# EAGLE library part 82257 (library micro-siemens)
MICROPROCESSOR/PERIPHERAL DEVICE
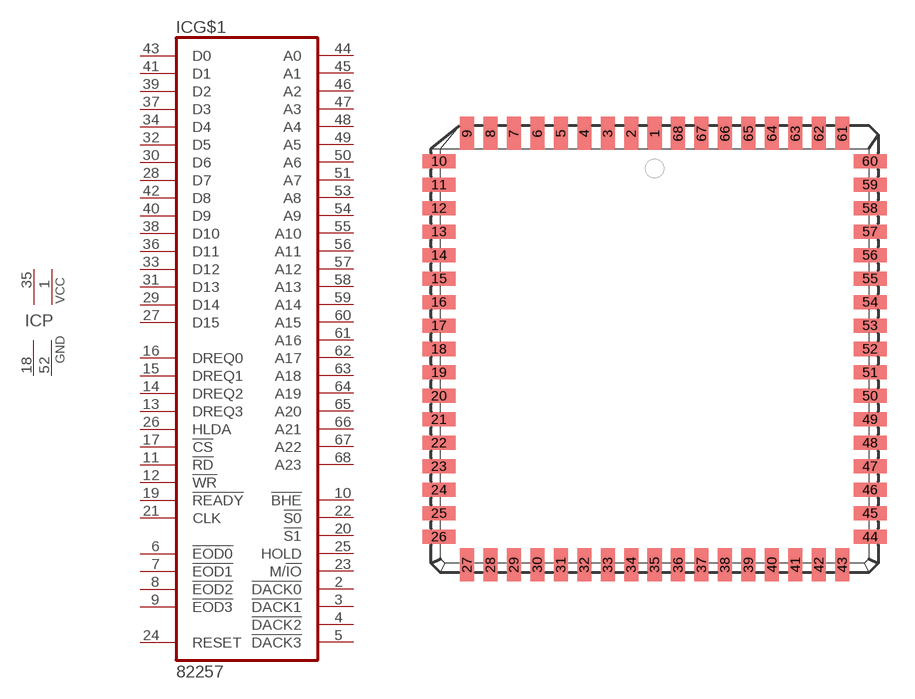
[diagram p5: symbol with the pads of PLCC68; footprint PLCC68]

Designator prefix IC; gates G$1=82257 P=2VCC2GND

## 82257 (OC_FARNELL: unknown; OC_NEWARK: unknown)  [PLCC68]
1  P:VCC  pwr
2  G$1:!DACK0  out
3  G$1:!DACK1  out
4  G$1:!DACK2  out
5  G$1:!DACK3  out
6  G$1:!EOD0
7  G$1:!EOD1
8  G$1:!EOD2
9  G$1:!EOD3
10  G$1:!BHE
11  G$1:!RD  in
12  G$1:!WR  in
13  G$1:DREQ3  in
14  G$1:DREQ2  in
15  G$1:DREQ1  in
16  G$1:DREQ0  in
17  G$1:!CS  in
18  P:GND  pwr
19  G$1:!READY  in
20  G$1:!S1
21  G$1:CLK  in
22  G$1:!S0
23  G$1:M/!IO  out
24  G$1:RESET  in
25  G$1:HOLD  out
26  G$1:HLDA  in
27  G$1:D15
28  G$1:D7
29  G$1:D14
30  G$1:D6
31  G$1:D13
32  G$1:D5
33  G$1:D12
34  G$1:D4
35  P:VCC  pwr
36  G$1:D11
37  G$1:D3
38  G$1:D10
39  G$1:D2
40  G$1:D9
41  G$1:D1
42  G$1:D8
43  G$1:D0
44  G$1:A0
45  G$1:A1
46  G$1:A2
47  G$1:A3
48  G$1:A4
49  G$1:A5
50  G$1:A6
51  G$1:A7
52  P:GND  pwr
53  G$1:A8  out
54  G$1:A9  out
55  G$1:A10  out
56  G$1:A11  out
57  G$1:A12  out
58  G$1:A13  out
59  G$1:A14  out
60  G$1:A15  out
61  G$1:A16  out
62  G$1:A17  out
63  G$1:A18  out
64  G$1:A19  out
65  G$1:A20  out
66  G$1:A21  out
67  G$1:A22  out
68  G$1:A23  out

## Footprint PLCC68 (pad centres in mm)
PLASTIC LEADED CHIP CARRIER square
smd 0.76 x 1.8: 1 0,11.67; 2 -1.27,11.67; 3 -2.54,11.67; 4 -3.81,11.67; 5 -5.08,11.67; 6 -6.35,11.67; 7 -7.62,11.67; 8 -8.89,11.67; 9 -10.16,11.67; 27 -10.16,-11.67; 28 -8.89,-11.67; 29 -7.62,-11.67; 30 -6.35,-11.67; 31 -5.08,-11.67; 32 -3.81,-11.67; 33 -2.54,-11.67; 34 -1.27,-11.67; 35 0,-11.67; 36 1.27,-11.67; 37 2.54,-11.67; 38 3.81,-11.67; 39 5.08,-11.67; 40 6.35,-11.67; 41 7.62,-11.67; 42 8.89,-11.67; 43 10.16,-11.67; 61 10.16,11.67; 62 8.89,11.67; 63 7.62,11.67; 64 6.35,11.67; 65 5.08,11.67; 66 3.81,11.67; 67 2.54,11.67; 68 1.27,11.67
smd 1.8 x 0.76: 10 -11.67,10.16; 11 -11.67,8.89; 12 -11.67,7.62; 13 -11.67,6.35; 14 -11.67,5.08; 15 -11.67,3.81; 16 -11.67,2.54; 17 -11.67,1.27; 18 -11.67,0; 19 -11.67,-1.27; 20 -11.67,-2.54; 21 -11.67,-3.81; 22 -11.67,-5.08; 23 -11.67,-6.35; 24 -11.67,-7.62; 25 -11.67,-8.89; 26 -11.67,-10.16; 44 11.67,-10.16; 45 11.67,-8.89; 46 11.67,-7.62; 47 11.67,-6.35; 48 11.67,-5.08; 49 11.67,-3.81; 50 11.67,-2.54; 51 11.67,-1.27; 52 11.67,0; 53 11.67,1.27; 54 11.67,2.54; 55 11.67,3.81; 56 11.67,5.08; 57 11.67,6.35; 58 11.67,7.62; 59 11.67,8.89; 60 11.67,10.16